# EAGLE library part 61201621621 (library 61201621621)
WURTH ELEKTRONIK - 61201621621 - Pin Header, Wire-to-Board, 2.54 mm, 2 Rows, 16 Contacts, Through Hole Straight, WR-BHD Series Source: Datasheet <http://uk.rs-online.com/web/p/products/7718357>
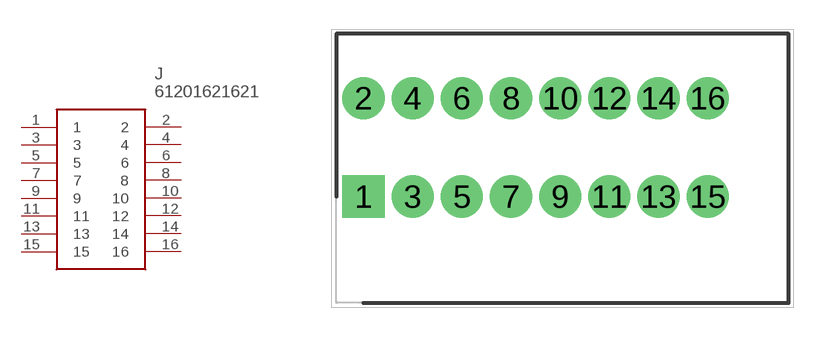
[diagram p0: symbol with the pads of SHDR16W90P508X254_2X8_2286X136; footprint SHDR16W90P508X254_2X8_2286X136]

Designator prefix J

## 61201621621 (Description: WURTH ELEKTRONIK - 61201621621 - Pin Header, Wire-to-Board, 2.54 mm, 2 Rows, 16 Contacts, Through Hole Straight, WR-BHD Series; Height: 13.1mm; Manufacturer_Name: Wurth Elektronik; Manufacturer_Part_Number: 61201621621; RS_Part_Number: 7718357; RS_Price-Stock: http://uk.rs-online.com/web/p/products/7718357)  [SHDR16W90P508X254_2X8_2286X136]
1  1
2  2
3  3
4  4
5  5
6  6
7  7
8  8
9  9
10  10
11  11
12  12
13  13
14  14
15  15
16  16

## Footprint SHDR16W90P508X254_2X8_2286X136 (pad centres in mm)
61201621621
drill 1.45 pad 2.175 square: 1 0,0
drill 1.45 pad 2.175: 2 0,5.08; 3 2.54,0; 4 2.54,5.08; 5 5.08,0; 6 5.08,5.08; 7 7.62,0; 8 7.62,5.08; 9 10.16,0; 10 10.16,5.08; 11 12.7,0; 12 12.7,5.08; 13 15.24,0; 14 15.24,5.08; 15 17.78,0; 16 17.78,5.08